# EAGLE library part RASPI-ZERO-2W (library FansElectronics-Raspberry)
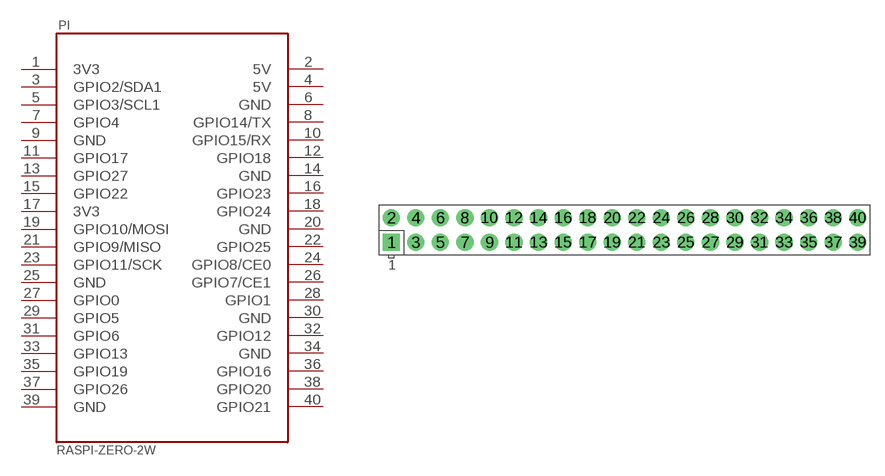
[diagram p0: symbol with the pads of RASPI-ZERO-2W; footprint RASPI-ZERO-2W]

Designator prefix PI

## RASPI-ZERO-2W  [RASPI-ZERO-2W]
1  3V3  pwr
2  5V  pwr
3  GPIO2/SDA1
4  5V  pwr
5  GPIO3/SCL1
6  GND  pwr
7  GPIO4
8  GPIO14/TX
9  GND  pwr
10  GPIO15/RX
11  GPIO17
12  GPIO18
13  GPIO27
14  GND  pwr
15  GPIO22
16  GPIO23
17  3V3  pwr
18  GPIO24
19  GPIO10/MOSI
20  GND  pwr
21  GPIO9/MISO
22  GPIO25
23  GPIO11/SCK
24  GPIO8/CE0
25  GND  pwr
26  GPIO7/CE1
27  GPIO0
28  GPIO1
29  GPIO5
30  GND  pwr
31  GPIO6
32  GPIO12
33  GPIO13
34  GND  pwr
35  GPIO19
36  GPIO16
37  GPIO26
38  GPIO20
39  GND  pwr
40  GPIO21

## Footprint RASPI-ZERO-2W (pad centres in mm)
drill 1 pad 1.778 square: 1 -23.38,9.99
drill 1 pad 1.778: 2 -23.38,12.53; 3 -20.84,9.99; 4 -20.84,12.53; 5 -18.3,9.99; 6 -18.3,12.53; 7 -15.76,9.99; 8 -15.76,12.53; 9 -13.22,9.99; 10 -13.22,12.53; 11 -10.68,9.99; 12 -10.68,12.53; 13 -8.14,9.99; 14 -8.14,12.53; 15 -5.6,9.99; 16 -5.6,12.53; 17 -3.06,9.99; 18 -3.06,12.53; 19 -0.52,9.99; 20 -0.52,12.53; 21 2.02,9.99; 22 2.02,12.53; 23 4.56,9.99; 24 4.56,12.53; 25 7.1,9.99; 26 7.1,12.53; 27 9.64,9.99; 28 9.64,12.53; 29 12.18,9.99; 30 12.18,12.53; 31 14.72,9.99; 32 14.72,12.53; 33 17.26,9.99; 34 17.26,12.53; 35 19.8,9.99; 36 19.8,12.53; 37 22.34,9.99; 38 22.34,12.53; 39 24.88,9.99; 40 24.88,12.53